# EAGLE library part POWERBOOST_1000C (library pechera)
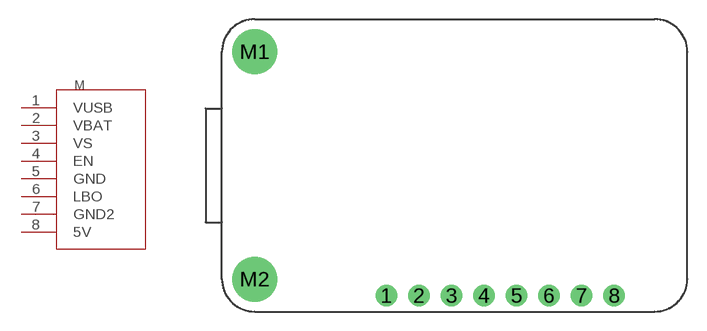
[diagram p1: symbol with the pads of POWERBOOST_1000C; footprint POWERBOOST_1000C]

Designator prefix M

## POWERBOOST_1000C  [POWERBOOST_1000C]
1  VUSB
2  VBAT
3  VS
4  EN
5  GND
6  LBO
7  GND2
8  5V

## Footprint POWERBOOST_1000C (pad centres in mm)
drill 0.813 pad 1.676: 1 12.827,1.27; 2 15.367,1.27; 3 17.907,1.27; 4 20.447,1.27; 5 22.987,1.27; 6 25.527,1.27; 7 28.067,1.27; 8 30.607,1.27
drill 2.5: M1 2.54,20.32; M2 2.54,2.54